# EAGLE library part HM44?S (library con-subd)
SUB-D
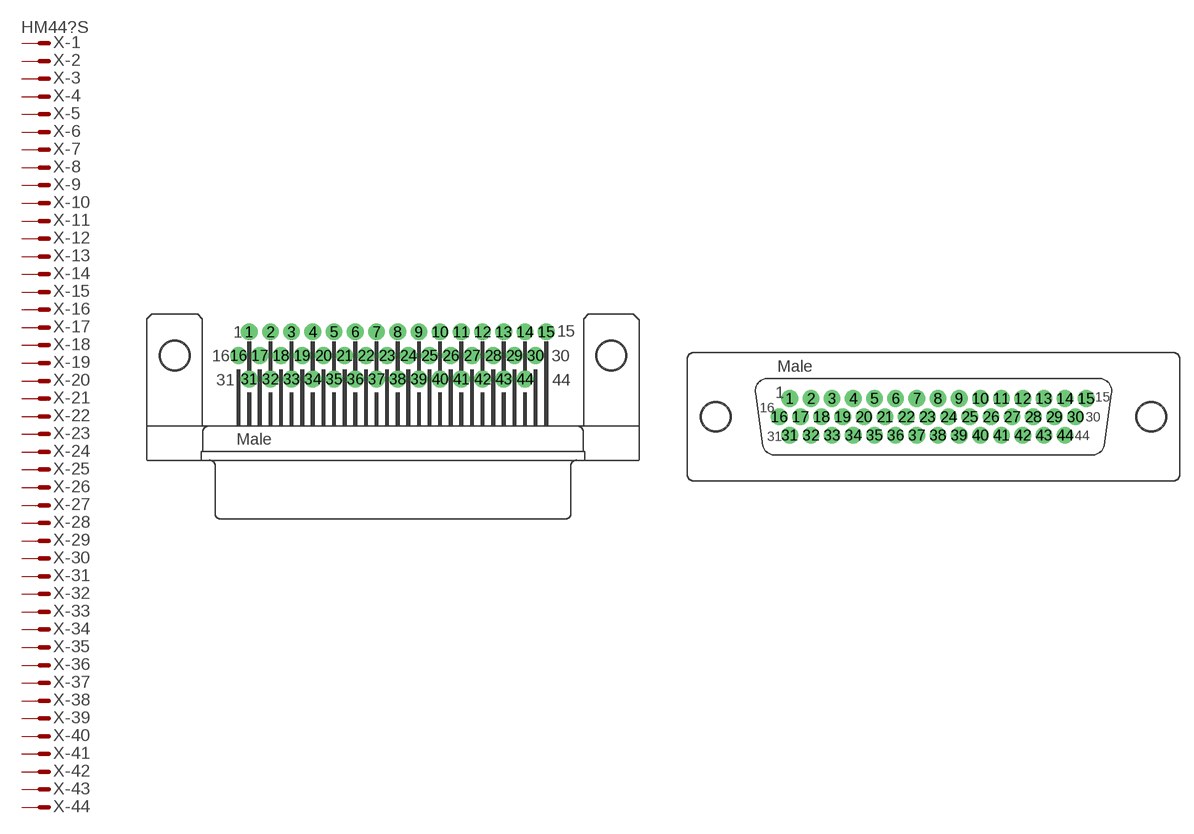
[diagram p50: symbol with the pads of HDM44H; footprints HDM44H, HDM44V]

Designator prefix X; gates -1=MV -2=M -3=M -4=M -5=M -6=M -7=M -8=M -9=M -10=M -11=M -12=M -13=M -14=M -15=M -16=M -17=M -18=M -19=M -20=M -21=M -22=M -23=M -24=M -25=M -26=M -27=M -28=M -29=M -30=M -31=M -32=M -33=M -34=M -35=M -36=M -37=M -38=M -39=M -40=M -41=M -42=M -43=M -44=M

## HM44HS  [HDM44H]
1  -1:M  pas
2  -2:M  pas
3  -3:M  pas
4  -4:M  pas
5  -5:M  pas
6  -6:M  pas
7  -7:M  pas
8  -8:M  pas
9  -9:M  pas
10  -10:M  pas
11  -11:M  pas
12  -12:M  pas
13  -13:M  pas
14  -14:M  pas
15  -15:M  pas
16  -16:M  pas
17  -17:M  pas
18  -18:M  pas
19  -19:M  pas
20  -20:M  pas
21  -21:M  pas
22  -22:M  pas
23  -23:M  pas
24  -24:M  pas
25  -25:M  pas
26  -26:M  pas
27  -27:M  pas
28  -28:M  pas
29  -29:M  pas
30  -30:M  pas
31  -31:M  pas
32  -32:M  pas
33  -33:M  pas
34  -34:M  pas
35  -35:M  pas
36  -36:M  pas
37  -37:M  pas
38  -38:M  pas
39  -39:M  pas
40  -40:M  pas
41  -41:M  pas
42  -42:M  pas
43  -43:M  pas
44  -44:M  pas

## HM44VS  [HDM44V]
Pads as for HDM44H

## Footprint HDM44H (pad centres in mm)
SUB-D
drill 0.9 pad 1.8 round: 1 -15.497,2.54; 2 -13.211,2.54; 3 -10.925,2.54; 4 -8.639,2.54; 5 -6.353,2.54; 6 -4.067,2.54; 7 -1.781,2.54; 8 0.505,2.54; 9 2.791,2.54; 10 5.077,2.54; 11 7.363,2.54; 12 9.649,2.54; 13 11.935,2.54; 14 14.221,2.54; 15 16.507,2.54; 16 -16.64,0; 17 -14.354,0; 18 -12.068,0; 19 -9.782,0; 20 -7.496,0; 21 -5.21,0; 22 -2.924,0; 23 -0.638,0; 24 1.648,0; 25 3.934,0; 26 6.22,0; 27 8.506,0; 28 10.792,0; 29 13.078,0; 30 15.364,0; 31 -15.497,-2.54; 32 -13.211,-2.54; 33 -10.925,-2.54; 34 -8.639,-2.54; 35 -6.353,-2.54; 36 -4.067,-2.54; 37 -1.781,-2.54; 38 0.505,-2.54; 39 2.791,-2.54; 40 5.077,-2.54; 41 7.363,-2.54; 42 9.649,-2.54; 43 11.935,-2.54; 44 14.221,-2.54
hole 3 at -23.52,0
hole 3 at 23.52,0

## Footprint HDM44V (pad centres in mm)
SUB-D
drill 0.9 pad 1.8 round: 1 -15.516,1.98; 2 -13.23,1.98; 3 -10.944,1.98; 4 -8.658,1.98; 5 -6.372,1.98; 6 -4.086,1.98; 7 -1.8,1.98; 8 0.486,1.98; 9 2.772,1.98; 10 5.058,1.98; 11 7.344,1.98; 12 9.63,1.98; 13 11.916,1.98; 14 14.202,1.98; 15 16.488,1.98; 16 -16.659,0; 17 -14.373,0; 18 -12.087,0; 19 -9.801,0; 20 -7.515,0; 21 -5.229,0; 22 -2.943,0; 23 -0.657,0; 24 1.629,0; 25 3.915,0; 26 6.201,0; 27 8.487,0; 28 10.773,0; 29 13.059,0; 30 15.345,0; 31 -15.516,-1.98; 32 -13.23,-1.98; 33 -10.944,-1.98; 34 -8.658,-1.98; 35 -6.372,-1.98; 36 -4.086,-1.98; 37 -1.8,-1.98; 38 0.486,-1.98; 39 2.772,-1.98; 40 5.058,-1.98; 41 7.344,-1.98; 42 9.63,-1.98; 43 11.916,-1.98; 44 14.202,-1.98
hole 3 at -23.52,0
hole 3 at 23.52,0